# Altium footprint library WRIS-KWKB.PcbLib: 3 footprints
Each footprint in its own frame and in the unit in brackets; x right, y up, seen from the top. Pads: shape width x height; smd on the part's side, far side on the other; paste and mask are expansions set on the pad; w line width, h text height; cw(c..) or ccw(c..) is an arc to the next point about the centre after c.
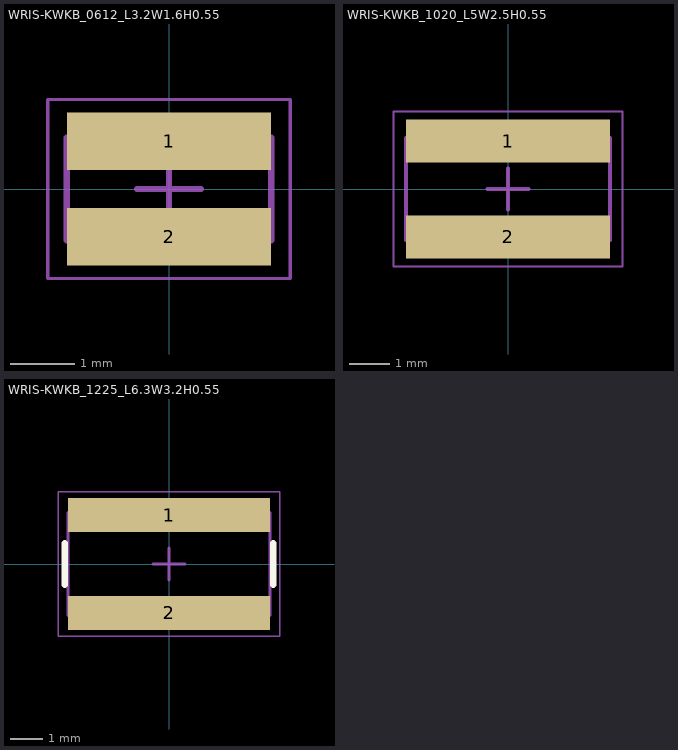
[diagram p0: the footprints below, top view; thin cyan lines are the x and y axes]

## WRIS-KWKB_0612_L3.2W1.6H0.55 [mm] "Thick Film Resistors, SMT, body size 3.2x1.6mm"
height 0.65
pads (2):
  rect 3.2x0.9 smd: 1(0,0.75) 2(0,-0.75)
Top Assembly:
  lines w0.1: -1.6,-0.8 -1.6,0.8 1.6,0.8 1.6,-0.8 -1.6,-0.8
Top Designator:
  text ".Designator" at -3.647,-0.357 h1
Top 3D Body:
  lines w0.1: -1.6,-0.8 -1.6,0.8 1.6,0.8 1.6,-0.8 -1.6,-0.8
Top Courtyard:
  lines w0.05: -1.9,-1.4 -1.9,1.4 1.9,1.4 1.9,-1.4 -1.9,-1.4
Top Component Center:
  lines w0.1: -0.5,0 0.5,0 ; 0,-0.5 0,0.5
3D body "WRIS-KWKB_0612.stp": height 0.55, standoff 0, extent -1.6,-0.8 1.6,0.8

## WRIS-KWKB_1020_L5W2.5H0.55 [mm] "Thick Film Resistors, SMT, body size 5x2.5mm"
height 0.65
pads (2):
  rect 5x1.05 smd: 1(0,1.175) 2(0,-1.175)
Top Assembly:
  lines w0.1: -2.5,-1.25 -2.5,1.25 2.5,1.25 2.5,-1.25 -2.5,-1.25
Top Designator:
  text ".Designator" at -3.647,-0.357 h1
Top 3D Body:
  lines w0.1: -2.5,-1.25 -2.5,1.25 2.5,1.25 2.5,-1.25 -2.5,-1.25
Top Courtyard:
  lines w0.05: -2.8,-1.9 -2.8,1.9 2.8,1.9 2.8,-1.9 -2.8,-1.9
Top Component Center:
  lines w0.1: -0.5,0 0.5,0 ; 0,-0.5 0,0.5
3D body "WRIS-KWKB_1020.stp": height 0.55, standoff 0, extent -2.5,-1.25 2.5,1.25

## WRIS-KWKB_1225_L6.3W3.2H0.55 [mm] "Thick Film Resistors, SMT, body size 6.3x3.2mm"
height 0.65
pads (2):
  rect 6.3x1.05 smd: 1(0,1.525) 2(0,-1.525)
Top Overlay:
  lines w0.2: -3.25,-0.65 -3.25,0.65 ; 3.25,-0.65 3.25,0.65
Top Assembly:
  lines w0.1: -3.15,-1.6 -3.15,1.6 3.15,1.6 3.15,-1.6 -3.15,-1.6
Top Designator:
  text ".Designator" at -3.647,-0.357 h1
Top 3D Body:
  lines w0.1: -3.15,-1.6 -3.15,1.6 3.15,1.6 3.15,-1.6 -3.15,-1.6
Top Courtyard:
  lines w0.05: -3.45,-2.25 -3.45,2.25 3.45,2.25 3.45,-2.25 -3.45,-2.25
Top Component Center:
  lines w0.1: -0.5,0 0.5,0 ; 0,-0.5 0,0.5
3D body "WRIS-KWKB_1225.stp": height 0.55, standoff 0, extent -3.15,-1.6 3.15,1.6